# Altium schematic symbol library Micromouse_Version2.SchLib: 3 symbols
Pins are listed as number, name and electrical type; pins without a type are passive.

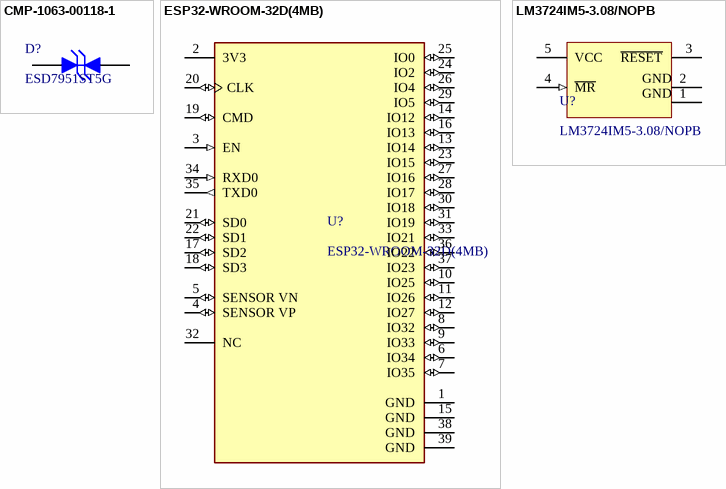
[diagram p0: symbols CMP-1063-00118-1 to LM3724IM5-3.08/NOPB]

## CMP-1063-00118-1
designator D?, comment ESD7951ST5G
ON SEMICONDUCTOR - ESD7951ST5G - ESD Protection Device, 12.9 V, SOD-923, 2 Pins, 5 V, 150 mW, ESD79 Series; Clamping Voltage: 12.9V; Reverse Standoff Voltage: 5V; Min Breakdown Voltage: 5.4V; Power Line Protection: No; Peak Pulse Current: 1A; Capacitance: 0.9pF; Direction: Bidirectional; Number of Bidirectional Channels: 1; Leakage Current: 1uA; Peak Pulse Power: 150mW; Test Current: 1mA; ESD Protection: Yes; Element Configuration: Single; Supplier 1: Digi-Key; Supplier Part Number 1: ESD7951ST5GOSCT-ND; Manufacturer: ON Semiconductor; Manufacturer Part Number: ESD7951ST5G; RoHS: Yes; Category: ESD and Circuit Protection ICs; Stock 1: 4793; Pricing 1: 1=0.40000, 10=0.29500, 100=0.14020, 500=0.11440, 1000=0.08487, 2000=0.07454 (USD); Case/Package: SOD-923-2; Number of Pins: 2; Contact Plating: Tin,Matte; Min Operating Temperature: -55°C; Max Operating Temperature: 125°C; Packaging: Tape and Reel; Resistor Type: Zener; Polarity: Bidirectional; Breakdown Voltage: 5.4V; Number of Channels: 1; Termination: SMD/SMT; Working Voltage: 5V; Package Quantity: 1; Operating Supply Voltage: 5V; Max Power Dissipation: 150mW; Max Reverse Leakage Current: 1uA; Number of Lines: 1; Length: 0.8mm; Width: 0.65mm; Height: 0.4mm; Depth: 0.6mm; Radiation Hardening: No; Lead Free: Lead Free; REACH SVHC: No SVHC; Halogen Free: Halogen Free; ComponentLink1URL: https://datasheet.ciiva.com/6577/esd7951s-d-6577856.pdf?src-supplier=Digi-Key; ComponentLink1Description: https://datasheet.ciiva.com/6577/esd7951s-d-6577856.pdf?src-supplier=Digi-Key; ComponentLink2URL: https://datasheet.ciiva.com/6577/esd7951s-d-6577856.pdf?src-supplier=Avnet; ComponentLink2Description: https://datasheet.ciiva.com/6577/esd7951s-d-6577856.pdf?src-supplier=Avnet; ComponentLink3URL: https://datasheet.ciiva.com/30479/0900766b81250942-30479090.pdf?src-supplier=RSComponents; ComponentLink3Description: https://datasheet.ciiva.com/30479/0900766b81250942-30479090.pdf?src-supplier=RSComponents; ComponentLink4URL: https://datasheet.ciiva.com/4479/esd7951s-d-92833-4479383.pdf?src-supplier=Mouser; ComponentLink4Description: https://datasheet.ciiva.com/4479/esd7951s-d-92833-4479383.pdf?src-supplier=Mouser; ComponentLink5URL: https://datasheet.ciiva.com/28375/esd7951s-d-28375391.pdf?src-supplier=Avnet+Europe; ComponentLink5Description: https://datasheet.ciiva.com/28375/esd7951s-d-28375391.pdf?src-supplier=Avnet+Europe; ComponentLink6URL: https://datasheet.ciiva.com/11195/esd7951s-d-11195307.pdf?src-supplier=Avnet; ComponentLink6Description: https://datasheet.ciiva.com/11195/esd7951s-d-11195307.pdf?src-supplier=Avnet; ComponentLink7URL: https://datasheet.ciiva.com/6577/esd7951s-d-6577852.pdf?src-supplier=Digi-Key; ComponentLink7Description: https://datasheet.ciiva.com/6577/esd7951s-d-6577852.pdf?src-supplier=Digi-Key; ComponentLink8URL: https://datasheet.ciiva.com/6577/esd7951s-d-6577854.pdf?src-supplier=Digi-Key; ComponentLink8Description: https://datasheet.ciiva.com/6577/esd7951s-d-6577854.pdf?src-supplier=Digi-Key
footprint ONSC-SOD-923-2-514AB-01_V (SOD, 2-Leads, Body 0.8x0.6mm)
pins: 1 A1, 2 A2

## ESP32-WROOM-32D(4MB)
designator U?
Bluetooth and Wi-Fi Module 2.4GHz to 2.5GHz 2.7V to 3.6V 4MB Flash 38-Pin SMD Module; Manufacturer: Espressif Systems; Supplier 1: Digi-Key; Supplier Part Number 1: 1965-ESP32-WROOM-32D(4MB)CT-ND; Manufacturer Part Number: ESP32-WROOM-32D(4MB); RoHS: No; Stock 1: 8156; Pricing 1: 1=3.800000 (USD)
footprint FP-ESP32-WROOM-32D_4MB-MFG
pins: 1 GND (power), 2 3V3 (power), 3 EN (in), 4 SENSOR VP (io), 5 SENSOR VN (io), 6 IO34 (io), 7 IO35 (io), 8 IO32 (io), 9 IO33 (io), 10 IO25 (io), 11 IO26 (io), 12 IO27 (io), 13 IO14 (io), 14 IO12 (io), 15 GND (power), 16 IO13 (io), 17 SD2 (io), 18 SD3 (io), 19 CMD (io), 20 CLK (io), 21 SD0 (io), 22 SD1 (io), 23 IO15 (io), 24 IO2 (io), 25 IO0 (io), 26 IO4 (io), 27 IO16 (io), 28 IO17 (io), 29 IO5 (io), 30 IO18 (io), 31 IO19 (io), 32 NC, 33 IO21 (io), 34 RXD0 (in), 35 TXD0 (out), 36 IO22 (io), 37 IO23 (io), 38 GND (power), 39 GND (power)

## LM3724IM5-3.08/NOPB
designator U?
IC MPU SUPERVISR 3.08V SOT23-5; Manufacturer: TI National Semiconductor; Max Supply Voltage: 5.5V; Min Supply Voltage: 1V; Watchdog Timer: No; Min Reset Threshold Voltage: 3.03V; Max Reset Threshold Voltage: 3.14V; Max Power Dissipation: 320mW; Max Supply Current: 10uA; Number of Elements: 1; Output Current: 20mA; Reset: Active Low; Reset Timeout: 100ms; Operating Supply Current: 8uA; Quiescent Current: 6uA; Supplier 1: Digi-Key; Supplier Part Number 1: LM3724IM5-3.08/NOPBCT-ND; Manufacturer Part Number: LM3724IM5-3.08/NOPB; RoHS: Yes; Category: Voltage Supervisors; Stock 1: 11237; Pricing 1: 1=1.95000, 10=1.74900, 25=1.65000, 100=1.32000, 250=1.15500, 500=1.12200 (USD); Mount: Surface Mount; Case/Package: SOT-23; Number of Pins: 5; Min Operating Temperature: -40°C; Max Operating Temperature: 85°C; Packaging: Tape and Reel; Threshold Voltage: 3.08V; Nominal Supply Current: 10uA; Power Dissipation: 320mW; Type: Simple Reset/Power-On Reset; Number of Voltages Monitored: 1; Package Quantity: 1000; Overvoltage Threshold: 3.08V; Undervoltage Threshold: 3.03V; Length: 2.92mm; Width: 1.6mm; Height: 1.02mm; Radiation Hardening: No; Lead Free: Lead Free; REACH SVHC: No SVHC
footprint MF05A_L (SOT23, 5-Leads, Body 2.9x1.6mm, Pitch 0.95mm, Lead Span 2.8mm, IPC High Density)
pins: 1 GND (power), 2 GND (power), 3 ~{RESET} (oc), 4 ~{MR} (in), 5 VCC (power)